# Altium footprint library Pikachu_Charger.PcbLib: 6 footprints
Each footprint in its own frame and in the unit in brackets; x right, y up, seen from the top. Pads: shape width x height; smd on the part's side, far side on the other; paste and mask are expansions set on the pad; w line width, h text height; cw(c..) or ccw(c..) is an arc to the next point about the centre after c.
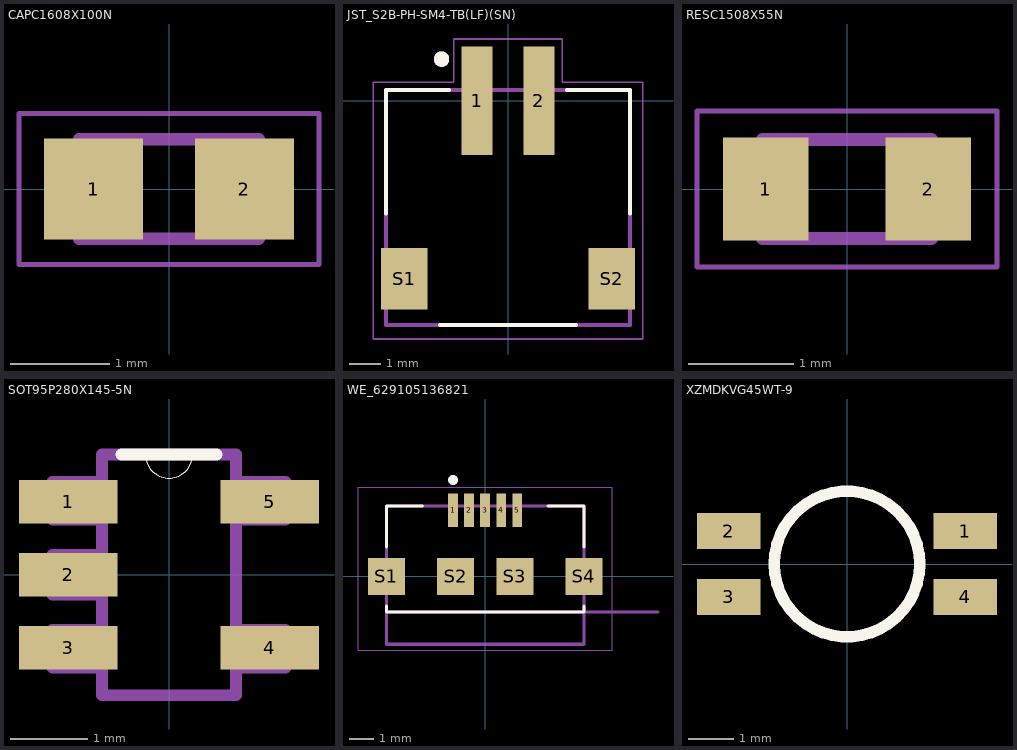
[diagram p0: the footprints below, top view; thin cyan lines are the x and y axes]

## CAPC1608X100N [mm]
height 3.16
pads (2):
  rect 1x1.02 smd: 1(-0.759,0) 2(0.759,0)
Mechanical 13:
  lines w0.127: -0.9,-0.5 -0.9,0.5 0.9,0.5 0.9,-0.5 -0.9,-0.5
Mechanical 15:
  lines w0.05: -1.508,-0.758 -1.508,0.758 1.508,0.758 1.508,-0.758 -1.508,-0.758
3D body "GRM188R61E106KA73J.STEP": height 0.4, standoff -0.4, extent -0.8,-0.492 0.8,0.508

## JST_S2B-PH-SM4-TB(LF)(SN) [mm]
height 3.16
pads (4):
  rect 1x3.5 smd: 1(-1,0) 2(1,0)
  rect 1.5x2 smd: S1(-3.35,-5.75) S2(3.35,-5.75)
Top Overlay:
  circle w0.3: c-2.15,1.35 r0.1
  lines w0.127: -3.95,-3.65 -3.95,0.35 -1.9,0.35 ; -2.2,-7.25 2.2,-7.25 ; 1.9,0.35 3.95,0.35 3.95,-3.65
Mechanical 13:
  circle w0.3: c-2.15,1.35 r0.1
  lines w0.127: -3.95,-7.25 -3.95,0.35 3.95,0.35 3.95,-7.25 -3.95,-7.25
Mechanical 15:
  lines w0.05: -4.35,-7.7 -4.35,0.6 -1.75,0.6 -1.75,2 1.75,2 1.75,0.6 4.35,0.6 4.35,-7.7 -4.35,-7.7
3D body "step_temp.STEP": height 5.63, standoff 0.03, extent -3.95,-7.239 3.95,1.361

## RESC1508X55N [mm]
height 3.16
pads (2):
  rect 0.81x0.98 smd: 1(-0.771,0) 2(0.771,0)
Mechanical 13:
  lines w0.127: -0.8,-0.47 -0.8,0.47 0.8,0.47 0.8,-0.47 -0.8,-0.47
Mechanical 15:
  lines w0.05: -1.425,-0.74 -1.425,0.74 1.425,0.74 1.425,-0.74 -1.425,-0.74
3D body "MCT0603HC1001FP100.STEP": height 0.55, standoff 0, extent -0.775,-0.425 0.775,0.425

## SOT95P280X145-5N [mil]
height 29.53
pads (5):
  rect 50x22 smd: 1(-51,37) 2(-51,0) 3(-51,-37) 4(51,-37) 5(51,37)
Top Overlay:
  lines w0: -12,61 ccw(c0,61) 12,61
  lines w6: -24,61 -12,61 12,61 24,61
Mechanical 13:
  lines w0: -12,61 ccw(c0,61) 12,61
  lines w6: -34,-47 -59,-47 -59,-28 -34,-28 ; -34,-47 -34,-28 ; -34,-47 -34,-61 34,-61 34,-47 ; -34,-28 -34,-10 ; -34,-10 -59,-10 -59,10 -34,10 ; -34,-10 -34,10 ; -34,10 -34,28 ; -34,28 -59,28 -59,47 -34,47 ; -34,28 -34,47 ; -34,47 -34,61 -12,61 12,61 34,61 34,47 ; 34,-47 59,-47 59,-28 34,-28 ; 34,-47 34,-28 ; 34,-28 34,28 ; 34,28 59,28 59,47 34,47 ; 34,28 34,47
3D body "step_temp.STEP": height 57.09, standoff 0, extent -53.15,-57.09 53.15,57.09

## WE_629105136821 [mm]
height 3.16
pads (9):
  rect 0.4x1.35 smd: 1(-1.3,2.675) 2(-0.65,2.675) 3(0,2.675) 4(0.65,2.675) 5(1.3,2.675)
  rect 1.5x1.5 smd: S1(-4,0) S2(-1.2,0) S3(1.2,0) S4(4,0)
Top Overlay:
  circle w0.2: c-1.3,3.9 r0.1
  lines w0.127: -4,-1.2 -4,-1.45 4,-1.45 4,-1.2 ; -4,1.2 -4,2.85 -2.55,2.85 ; 2.55,2.85 4,2.85 4,1.2
Mechanical 13:
  circle w0.2: c-1.3,3.9 r0.1
  lines w0.127: 7,-1.45 -4,-1.45 ; -4,-1.45 -4,2.85 4,2.85 4,-2.75 -4,-2.75 -4,-1.45
  text "CONNECTOR EDGE" at -1.605,-2.61 h0.25
  text "PCB EDGE" at 5.14,-1.34 h0.25
Mechanical 15:
  lines w0.05: -5.15,-3 5.15,-3 5.15,3.6 -5.15,3.6 -5.15,-3
3D body "629105136821.stp": height 2.78, standoff -0.58, extent -4,-2.773 4,3.15

## XZMDKVG45WT-9 [mm]
pads (4):
  rect 1.4x0.8 smd: 1(2.6,0.725) 2(-2.6,0.725) 3(-2.6,-0.725) 4(2.6,-0.725)
Top Overlay:
  circle w0.254: c0,0 r1.6
3D body: height 0.2, standoff 0.1, extent -1.5,-1.5 1.5,1.5
3D body: height 0.2, standoff 0, extent -2.75,-1 -1.5,-0.5
3D body: height 0.2, standoff 0, extent -2.75,0.5 -1.5,1
3D body: height 0.2, standoff 0, extent 1.5,-1 2.75,-0.5
3D body: height 0.2, standoff 0, extent 1.5,0.5 2.75,1